# Altium schematic symbol library swreg.SchLib: 3 symbols
Pins are listed as number, name and electrical type; pins without a type are passive.

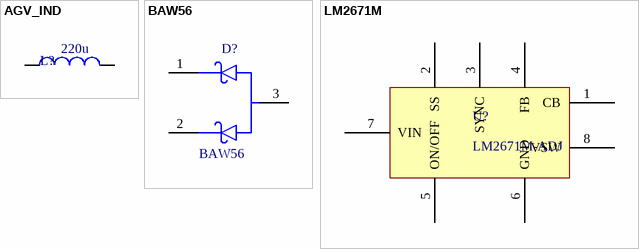
[diagram p0: symbols AGV_IND to LM2671M]

## AGV_IND
designator L?, comment value 220u  (hidden comment: IND)
Inductor; Published: 8-Jun-2000; LatestRevisionDate: 17-Jul-2002; LatestRevisionNote: Re-released for DXP Platform.; PackageReference: AXIAL-0.4; Publisher: Altium Limited; PackageDescription: Axial Device, Thru-Hole; 2 Leads; 0.4 in Pin Spacing
footprint INDC3924X34M (Chip Inductor, 2-Leads, Body 3,85x2,40mm, IPC Low Density)
pins: 1, 2

## BAW56
designator D?
footprint SOT23
pins: 1 A1, 2 A2, 3 K

## LM2671M
designator U?, comment LM2671M-ADJ
footprint AGV_SO-8
pins: 1 CB (power), 2 SS, 3 SYNC, 4 FB (power), 5 ON/OFF, 6 GND (power), 7 VIN (power), 8 VSW (power)